# EAGLE library part AD8232 (library SIH26113_Maternity_Assist_Belt)
Analog Devices AD8232ACPZ-R7 single-lead heart-rate monitor front end. Supply 2.0-3.5 V. Pin map from AD8232 Rev.A Table 3.
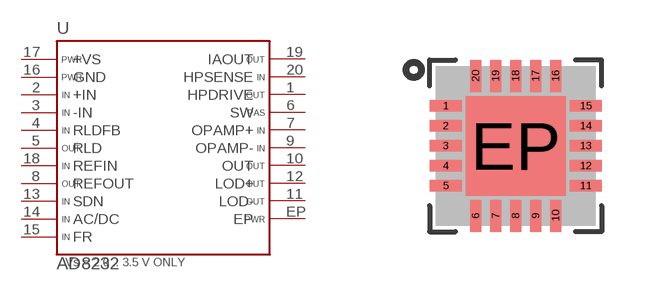
[diagram p1: symbol with the pads of LFCSP-20-4X4-P050; footprint LFCSP-20-4X4-P050]

Designator prefix U

## AD8232  [LFCSP-20-4X4-P050]
1  HPDRIVE  out
2  +IN  in
3  -IN  in
4  RLDFB  in
5  RLD  out
6  SW  pas
7  OPAMP+  in
8  REFOUT  out
9  OPAMP-  in
10  OUT  out
11  LOD-  out
12  LOD+  out
13  SDN  in
14  AC/DC  in
15  FR  in
16  GND  pwr
17  +VS  pwr
18  REFIN  in
19  IAOUT  out
20  HPSENSE  in
EP  EP  pwr

## Footprint LFCSP-20-4X4-P050 (pad centres in mm)
20-lead LFCSP_WQ 4x4 mm, 0.5 mm pitch, 2.50 mm SQ exposed pad (ADI CP-20-10 / JEDEC MO-220-WGGD). Body+terminal dims verified from the AD8232 Rev.A outline drawing; lands are IPC-7351B Nominal (0.80 x 0.28 mm at 1.75 mm from centre).
smd 0.8 x 0.28: 1 -1.75,1; 2 -1.75,0.5; 3 -1.75,0; 4 -1.75,-0.5; 5 -1.75,-1; 11 1.75,-1; 12 1.75,-0.5; 13 1.75,0; 14 1.75,0.5; 15 1.75,1
smd 0.28 x 0.8: 6 -1,-1.75; 7 -0.5,-1.75; 8 0,-1.75; 9 0.5,-1.75; 10 1,-1.75; 16 1,1.75; 17 0.5,1.75; 18 0,1.75; 19 -0.5,1.75; 20 -1,1.75
smd 2.5 x 2.5: EP 0,0